# Altium schematic symbol library kmilo17pet-LT_PMIC_LT.SchLib: 2252 symbols (part 76 of 124)
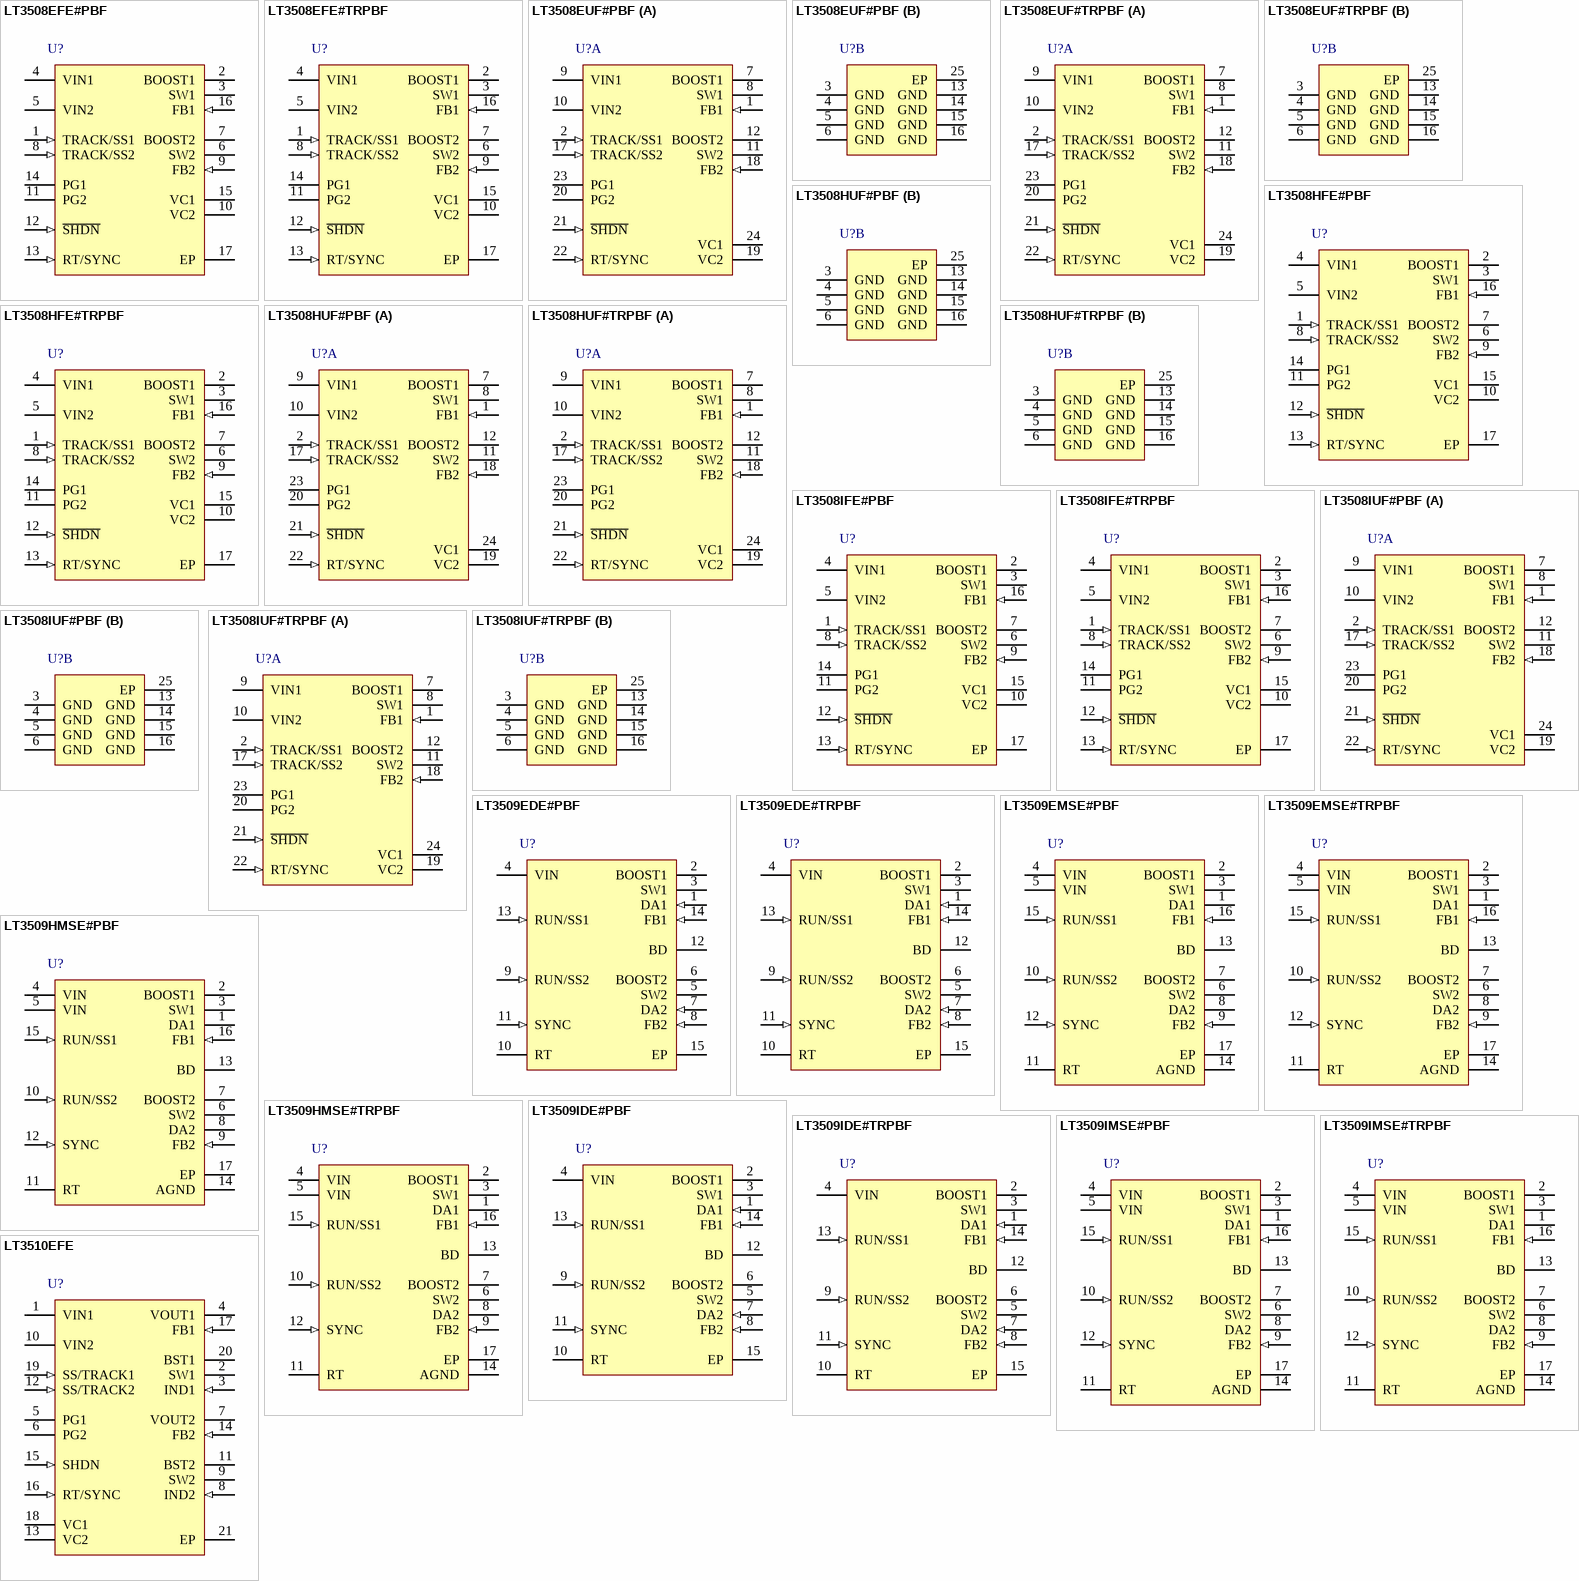
[diagram p146: symbols LT3508EFE#PBF to LT3510EFE]

## LT3508EFE#TRPBF
designator U?
Dual Monolithic 1.4 A Step-Down Switching Regulator, 16-pin SOP (FE-16-EPV-BA), -40 to 125 degC, Pb-Free, Tape and Reel; Manufacturer: Linear Technology; PartNumber: LT3508EFE#TRPBF; Number of Outputs: 2; PackageReference: FE-16; PackageDescription: 16-Pin Plastic TSSOP, Body 5 x 4.4 mm, Pitch 0.65 mm; Supplier 1: Digi-Key; Supplier Part Number 1: LT3508EFE#TRPBF-ND; RoHS: TRUE
footprint LT-FE-16-EPV-BA_N (SOP, 16-Leads, Body 5x4.4mm, Pitch 0.65mm, Thermal Pad 2.74x2.74mm, IPC Medium Density)
footprint LT-FE-16-EPV-BA_L (SOP, 16-Leads, Body 5x4.4mm, Pitch 0.65mm, Thermal Pad 2.74x2.74mm, IPC High Density)
footprint LT-FE-16-EPV-BA_M (SOP, 16-Leads, Body 5x4.4mm, Pitch 0.65mm, Thermal Pad 2.74x2.74mm, IPC Low Density)
pins: 1 TRACK/SS1 (in) "The TRACK/SS pins are used to soft-start the two channels, to allow one channel to track the other output, or to allow both channels to track another output. For tracking, tie a resistor divider to this pin from the tracked (See Datasheet)", 2 BOOST1 "The BOOST pins are used to provide drive voltages, higher than the input voltage, to the internal NPN power switches. Tie through a diode to a 2.8V or higher supply, such as VOUT or VIN.", 3 SW1 (power) "The SW pins are the outputs of the internal power switches. Connect these pins to the inductors, catch diodes and boost capacitors.", 4 VIN1 (power) "The VIN1 pin supplies current to the LT3508 internal circuitry and to the internal power switch connected to SW1 and must be locally bypassed. VIN1 must be greater than 3.7V for channel 1 or channel 2 to operate. If VIN1 is (See Datasheet)", 5 VIN2 (power) "The VIN2 pin supplies current to the internal power switch connected to SW2 and must be locally bypassed. Connect this pin directly to VIN1 unless power for channel 2 is coming from a different source. VIN2 must be greater (See Datasheet)", 6 SW2 (power) "The SW pins are the outputs of the internal power switches. Connect these pins to the inductors, catch diodes and boost capacitors.", 7 BOOST2 "The BOOST pins are used to provide drive voltages, higher than the input voltage, to the internal NPN power switches. Tie through a diode to a 2.8V or higher supply, such as VOUT or VIN.", 8 TRACK/SS2 (in) "The TRACK/SS pins are used to soft-start the two channels, to allow one channel to track the other output, or to allow both channels to track another output. For tracking, tie a resistor divider to this pin from the tracked (See Datasheet)", 9 FB2 (in) "The LT3508 regulates each feedback pin to 0.800V. Connect the feedback resistor divider taps to these pins.", 10 VC2 "The VC pins are the outputs of the internal error amps. The voltages on these pins control the peak switch currents. These pins are normally used to compensate the control loops, but can also be used to override the loops. (See Datasheet)", 11 PG2 (oc) "The power good pins are the open-collector outputs of an internal comparator. PG remains low until the FB pin is within 10% of the final regulation voltage. As well as indicating output regulation, the PG pins can be used to (See Datasheet)", 12 ~{SHDN} (in) "The shutdown pin is used to put the LT3508 in shutdown mode. Pull the pin below 0.3V to shut down the LT3508. The 2.63V threshold can function as an accurate undervoltage lockout (UVLO), preventing the regulator from (See Datasheet)", 13 RT/SYNC (in) "The RT/SYNC pin is used to set the internal oscillator frequency. Tie a 33.2k resistor from RT/SYNC to GND for a 1MHz switching frequency. To synchronize the part to an external frequency, drive the RT/SYNC pin with a (See Datasheet)", 14 PG1 (oc) "The power good pins are the open-collector outputs of an internal comparator. PG remains low until the FB pin is within 10% of the final regulation voltage. As well as indicating output regulation, the PG pins can be used to (See Datasheet)", 15 VC1 "The VC pins are the outputs of the internal error amps. The voltages on these pins control the peak switch currents. These pins are normally used to compensate the control loops, but can also be used to override the loops. (See Datasheet)", 16 FB1 (in) "The LT3508 regulates each feedback pin to 0.800V. Connect the feedback resistor divider taps to these pins.", 17 EP (power) "The exposed pad metal of the package provides both electrical contact to ground and good thermal contact to the printed circuit board. The exposed pad must be soldered to the circuit board for proper operation."

## LT3508EUF#PBF
designator U?
Dual Monolithic 1.4 A Step-Down Switching Regulator, 24-pin QFN (UF24), -40 to 125 degC, Pb-Free; Manufacturer: Linear Technology; PartNumber: LT3508EUF#PBF; Number of Outputs: 2; PackageReference: UF24; PackageDescription: 24-Pin Plastic QFN, Body 4 x 4 mm, Pitch 0.5 mm; Supplier 1: Digi-Key; Supplier Part Number 1: LT3508EUF#PBF-ND; RoHS: TRUE
footprint LT-UF-24_N (QFN, 24-Leads, Body 4.1x4.1mm, Pitch 0.5mm, Thermal Pad 2.45x2.45mm, IPC Medium Density)
footprint LT-UF-24_L (QFN, 24-Leads, Body 4.1x4.1mm, Pitch 0.5mm, Thermal Pad 2.45x2.45mm, IPC High Density)
footprint LT-UF-24_M (QFN, 24-Leads, Body 4.1x4.1mm, Pitch 0.5mm, Thermal Pad 2.45x2.45mm, IPC Low Density)
part A pins: 1 FB1 (in) "The LT3508 regulates each feedback pin to 0.800V. Connect the feedback resistor divider taps to these pins.", 2 TRACK/SS1 (in) "The TRACK/SS pins are used to soft-start the two channels, to allow one channel to track the other output, or to allow both channels to track another output. For tracking, tie a resistor divider to this pin from the tracked (See Datasheet)", 7 BOOST1 "The BOOST pins are used to provide drive voltages, higher than the input voltage, to the internal NPN power switches. Tie through a diode to a 2.8V or higher supply, such as VOUT or VIN.", 8 SW1 (power) "The SW pins are the outputs of the internal power switches. Connect these pins to the inductors, catch diodes and boost capacitors.", 9 VIN1 (power) "The VIN1 pin supplies current to the LT3508 internal circuitry and to the internal power switch connected to SW1 and must be locally bypassed. VIN1 must be greater than 3.7V for channel 1 or channel 2 to operate. If VIN1 is (See Datasheet)", 10 VIN2 (power) "The VIN2 pin supplies current to the internal power switch connected to SW2 and must be locally bypassed. Connect this pin directly to VIN1 unless power for channel 2 is coming from a different source. VIN2 must be greater (See Datasheet)", 11 SW2 (power) "The SW pins are the outputs of the internal power switches. Connect these pins to the inductors, catch diodes and boost capacitors.", 12 BOOST2 "The BOOST pins are used to provide drive voltages, higher than the input voltage, to the internal NPN power switches. Tie through a diode to a 2.8V or higher supply, such as VOUT or VIN.", 17 TRACK/SS2 (in) "The TRACK/SS pins are used to soft-start the two channels, to allow one channel to track the other output, or to allow both channels to track another output. For tracking, tie a resistor divider to this pin from the tracked (See Datasheet)", 18 FB2 (in) "The LT3508 regulates each feedback pin to 0.800V. Connect the feedback resistor divider taps to these pins.", 19 VC2 "The VC pins are the outputs of the internal error amps. The voltages on these pins control the peak switch currents. These pins are normally used to compensate the control loops, but can also be used to override the loops. (See Datasheet)", 20 PG2 (oc) "The power good pins are the open-collector outputs of an internal comparator. PG remains low until the FB pin is within 10% of the final regulation voltage. As well as indicating output regulation, the PG pins can be used to (See Datasheet)", 21 ~{SHDN} (in) "The shutdown pin is used to put the LT3508 in shutdown mode. Pull the pin below 0.3V to shut down the LT3508. The 2.63V threshold can function as an accurate undervoltage lockout (UVLO), preventing the regulator from (See Datasheet)", 22 RT/SYNC (in) "The RT/SYNC pin is used to set the internal oscillator frequency. Tie a 33.2k resistor from RT/SYNC to GND for a 1MHz switching frequency. To synchronize the part to an external frequency, drive the RT/SYNC pin with a (See Datasheet)", 23 PG1 (oc) "The power good pins are the open-collector outputs of an internal comparator. PG remains low until the FB pin is within 10% of the final regulation voltage. As well as indicating output regulation, the PG pins can be used to (See Datasheet)", 24 VC1 "The VC pins are the outputs of the internal error amps. The voltages on these pins control the peak switch currents. These pins are normally used to compensate the control loops, but can also be used to override the loops. (See Datasheet)"
part B pins: 3 GND (power) "Tie the GND pins directly to the Exposed Pad and ground plane.", 4 GND (power) "Tie the GND pins directly to the Exposed Pad and ground plane.", 5 GND (power) "Tie the GND pins directly to the Exposed Pad and ground plane.", 6 GND (power) "Tie the GND pins directly to the Exposed Pad and ground plane.", 13 GND (power) "Tie the GND pins directly to the Exposed Pad and ground plane.", 14 GND (power) "Tie the GND pins directly to the Exposed Pad and ground plane.", 15 GND (power) "Tie the GND pins directly to the Exposed Pad and ground plane.", 16 GND (power) "Tie the GND pins directly to the Exposed Pad and ground plane.", 25 EP (power) "The exposed pad metal of the package provides both electrical contact to ground and good thermal contact to the printed circuit board. The exposed pad must be soldered to the circuit board for proper operation."

## LT3508EUF#TRPBF
designator U?
Dual Monolithic 1.4 A Step-Down Switching Regulator, 24-pin QFN (UF24), -40 to 125 degC, Pb-Free, Tape and Reel; Manufacturer: Linear Technology; PartNumber: LT3508EUF#TRPBF; Number of Outputs: 2; PackageReference: UF24; PackageDescription: 24-Pin Plastic QFN, Body 4 x 4 mm, Pitch 0.5 mm; Supplier 1: Digi-Key; Supplier Part Number 1: LT3508EUF#TRPBF-ND; RoHS: TRUE
footprint LT-UF-24_N (QFN, 24-Leads, Body 4.1x4.1mm, Pitch 0.5mm, Thermal Pad 2.45x2.45mm, IPC Medium Density)
footprint LT-UF-24_L (QFN, 24-Leads, Body 4.1x4.1mm, Pitch 0.5mm, Thermal Pad 2.45x2.45mm, IPC High Density)
footprint LT-UF-24_M (QFN, 24-Leads, Body 4.1x4.1mm, Pitch 0.5mm, Thermal Pad 2.45x2.45mm, IPC Low Density)
part A pins: 1 FB1 (in) "The LT3508 regulates each feedback pin to 0.800V. Connect the feedback resistor divider taps to these pins.", 2 TRACK/SS1 (in) "The TRACK/SS pins are used to soft-start the two channels, to allow one channel to track the other output, or to allow both channels to track another output. For tracking, tie a resistor divider to this pin from the tracked (See Datasheet)", 7 BOOST1 "The BOOST pins are used to provide drive voltages, higher than the input voltage, to the internal NPN power switches. Tie through a diode to a 2.8V or higher supply, such as VOUT or VIN.", 8 SW1 (power) "The SW pins are the outputs of the internal power switches. Connect these pins to the inductors, catch diodes and boost capacitors.", 9 VIN1 (power) "The VIN1 pin supplies current to the LT3508 internal circuitry and to the internal power switch connected to SW1 and must be locally bypassed. VIN1 must be greater than 3.7V for channel 1 or channel 2 to operate. If VIN1 is (See Datasheet)", 10 VIN2 (power) "The VIN2 pin supplies current to the internal power switch connected to SW2 and must be locally bypassed. Connect this pin directly to VIN1 unless power for channel 2 is coming from a different source. VIN2 must be greater (See Datasheet)", 11 SW2 (power) "The SW pins are the outputs of the internal power switches. Connect these pins to the inductors, catch diodes and boost capacitors.", 12 BOOST2 "The BOOST pins are used to provide drive voltages, higher than the input voltage, to the internal NPN power switches. Tie through a diode to a 2.8V or higher supply, such as VOUT or VIN.", 17 TRACK/SS2 (in) "The TRACK/SS pins are used to soft-start the two channels, to allow one channel to track the other output, or to allow both channels to track another output. For tracking, tie a resistor divider to this pin from the tracked (See Datasheet)", 18 FB2 (in) "The LT3508 regulates each feedback pin to 0.800V. Connect the feedback resistor divider taps to these pins.", 19 VC2 "The VC pins are the outputs of the internal error amps. The voltages on these pins control the peak switch currents. These pins are normally used to compensate the control loops, but can also be used to override the loops. (See Datasheet)", 20 PG2 (oc) "The power good pins are the open-collector outputs of an internal comparator. PG remains low until the FB pin is within 10% of the final regulation voltage. As well as indicating output regulation, the PG pins can be used to (See Datasheet)", 21 ~{SHDN} (in) "The shutdown pin is used to put the LT3508 in shutdown mode. Pull the pin below 0.3V to shut down the LT3508. The 2.63V threshold can function as an accurate undervoltage lockout (UVLO), preventing the regulator from (See Datasheet)", 22 RT/SYNC (in) "The RT/SYNC pin is used to set the internal oscillator frequency. Tie a 33.2k resistor from RT/SYNC to GND for a 1MHz switching frequency. To synchronize the part to an external frequency, drive the RT/SYNC pin with a (See Datasheet)", 23 PG1 (oc) "The power good pins are the open-collector outputs of an internal comparator. PG remains low until the FB pin is within 10% of the final regulation voltage. As well as indicating output regulation, the PG pins can be used to (See Datasheet)", 24 VC1 "The VC pins are the outputs of the internal error amps. The voltages on these pins control the peak switch currents. These pins are normally used to compensate the control loops, but can also be used to override the loops. (See Datasheet)"
part B pins: 3 GND (power) "Tie the GND pins directly to the Exposed Pad and ground plane.", 4 GND (power) "Tie the GND pins directly to the Exposed Pad and ground plane.", 5 GND (power) "Tie the GND pins directly to the Exposed Pad and ground plane.", 6 GND (power) "Tie the GND pins directly to the Exposed Pad and ground plane.", 13 GND (power) "Tie the GND pins directly to the Exposed Pad and ground plane.", 14 GND (power) "Tie the GND pins directly to the Exposed Pad and ground plane.", 15 GND (power) "Tie the GND pins directly to the Exposed Pad and ground plane.", 16 GND (power) "Tie the GND pins directly to the Exposed Pad and ground plane.", 25 EP (power) "The exposed pad metal of the package provides both electrical contact to ground and good thermal contact to the printed circuit board. The exposed pad must be soldered to the circuit board for proper operation."

## LT3508HFE#PBF
designator U?
Dual Monolithic 1.4 A Step-Down Switching Regulator, 16-pin SOP (FE-16-EPV-BA), -40 to 150 degC, Pb-Free; Manufacturer: Linear Technology; PartNumber: LT3508HFE#PBF; Number of Outputs: 2; PackageReference: FE-16; PackageDescription: 16-Pin Plastic TSSOP, Body 5 x 4.4 mm, Pitch 0.65 mm; Supplier 1: Digi-Key; Supplier Part Number 1: LT3508HFE#PBF-ND; RoHS: TRUE
footprint LT-FE-16-EPV-BA_N (SOP, 16-Leads, Body 5x4.4mm, Pitch 0.65mm, Thermal Pad 2.74x2.74mm, IPC Medium Density)
footprint LT-FE-16-EPV-BA_L (SOP, 16-Leads, Body 5x4.4mm, Pitch 0.65mm, Thermal Pad 2.74x2.74mm, IPC High Density)
footprint LT-FE-16-EPV-BA_M (SOP, 16-Leads, Body 5x4.4mm, Pitch 0.65mm, Thermal Pad 2.74x2.74mm, IPC Low Density)
pins: 1 TRACK/SS1 (in) "The TRACK/SS pins are used to soft-start the two channels, to allow one channel to track the other output, or to allow both channels to track another output. For tracking, tie a resistor divider to this pin from the tracked (See Datasheet)", 2 BOOST1 "The BOOST pins are used to provide drive voltages, higher than the input voltage, to the internal NPN power switches. Tie through a diode to a 2.8V or higher supply, such as VOUT or VIN.", 3 SW1 (power) "The SW pins are the outputs of the internal power switches. Connect these pins to the inductors, catch diodes and boost capacitors.", 4 VIN1 (power) "The VIN1 pin supplies current to the LT3508 internal circuitry and to the internal power switch connected to SW1 and must be locally bypassed. VIN1 must be greater than 3.7V for channel 1 or channel 2 to operate. If VIN1 is (See Datasheet)", 5 VIN2 (power) "The VIN2 pin supplies current to the internal power switch connected to SW2 and must be locally bypassed. Connect this pin directly to VIN1 unless power for channel 2 is coming from a different source. VIN2 must be greater (See Datasheet)", 6 SW2 (power) "The SW pins are the outputs of the internal power switches. Connect these pins to the inductors, catch diodes and boost capacitors.", 7 BOOST2 "The BOOST pins are used to provide drive voltages, higher than the input voltage, to the internal NPN power switches. Tie through a diode to a 2.8V or higher supply, such as VOUT or VIN.", 8 TRACK/SS2 (in) "The TRACK/SS pins are used to soft-start the two channels, to allow one channel to track the other output, or to allow both channels to track another output. For tracking, tie a resistor divider to this pin from the tracked (See Datasheet)", 9 FB2 (in) "The LT3508 regulates each feedback pin to 0.800V. Connect the feedback resistor divider taps to these pins.", 10 VC2 "The VC pins are the outputs of the internal error amps. The voltages on these pins control the peak switch currents. These pins are normally used to compensate the control loops, but can also be used to override the loops. (See Datasheet)", 11 PG2 (oc) "The power good pins are the open-collector outputs of an internal comparator. PG remains low until the FB pin is within 10% of the final regulation voltage. As well as indicating output regulation, the PG pins can be used to (See Datasheet)", 12 ~{SHDN} (in) "The shutdown pin is used to put the LT3508 in shutdown mode. Pull the pin below 0.3V to shut down the LT3508. The 2.63V threshold can function as an accurate undervoltage lockout (UVLO), preventing the regulator from (See Datasheet)", 13 RT/SYNC (in) "The RT/SYNC pin is used to set the internal oscillator frequency. Tie a 33.2k resistor from RT/SYNC to GND for a 1MHz switching frequency. To synchronize the part to an external frequency, drive the RT/SYNC pin with a (See Datasheet)", 14 PG1 (oc) "The power good pins are the open-collector outputs of an internal comparator. PG remains low until the FB pin is within 10% of the final regulation voltage. As well as indicating output regulation, the PG pins can be used to (See Datasheet)", 15 VC1 "The VC pins are the outputs of the internal error amps. The voltages on these pins control the peak switch currents. These pins are normally used to compensate the control loops, but can also be used to override the loops. (See Datasheet)", 16 FB1 (in) "The LT3508 regulates each feedback pin to 0.800V. Connect the feedback resistor divider taps to these pins.", 17 EP (power) "The exposed pad metal of the package provides both electrical contact to ground and good thermal contact to the printed circuit board. The exposed pad must be soldered to the circuit board for proper operation."

## LT3508HFE#TRPBF
designator U?
Dual Monolithic 1.4 A Step-Down Switching Regulator, 16-pin SOP (FE-16-EPV-BA), -40 to 150 degC, Pb-Free, Tape and Reel; Manufacturer: Linear Technology; PartNumber: LT3508HFE#TRPBF; Number of Outputs: 2; PackageReference: FE-16; PackageDescription: 16-Pin Plastic TSSOP, Body 5 x 4.4 mm, Pitch 0.65 mm; Supplier 1: Digi-Key; Supplier Part Number 1: LT3508HFE#TRPBF-ND; RoHS: TRUE
footprint LT-FE-16-EPV-BA_N (SOP, 16-Leads, Body 5x4.4mm, Pitch 0.65mm, Thermal Pad 2.74x2.74mm, IPC Medium Density)
footprint LT-FE-16-EPV-BA_L (SOP, 16-Leads, Body 5x4.4mm, Pitch 0.65mm, Thermal Pad 2.74x2.74mm, IPC High Density)
footprint LT-FE-16-EPV-BA_M (SOP, 16-Leads, Body 5x4.4mm, Pitch 0.65mm, Thermal Pad 2.74x2.74mm, IPC Low Density)
pins: 1 TRACK/SS1 (in) "The TRACK/SS pins are used to soft-start the two channels, to allow one channel to track the other output, or to allow both channels to track another output. For tracking, tie a resistor divider to this pin from the tracked (See Datasheet)", 2 BOOST1 "The BOOST pins are used to provide drive voltages, higher than the input voltage, to the internal NPN power switches. Tie through a diode to a 2.8V or higher supply, such as VOUT or VIN.", 3 SW1 (power) "The SW pins are the outputs of the internal power switches. Connect these pins to the inductors, catch diodes and boost capacitors.", 4 VIN1 (power) "The VIN1 pin supplies current to the LT3508 internal circuitry and to the internal power switch connected to SW1 and must be locally bypassed. VIN1 must be greater than 3.7V for channel 1 or channel 2 to operate. If VIN1 is (See Datasheet)", 5 VIN2 (power) "The VIN2 pin supplies current to the internal power switch connected to SW2 and must be locally bypassed. Connect this pin directly to VIN1 unless power for channel 2 is coming from a different source. VIN2 must be greater (See Datasheet)", 6 SW2 (power) "The SW pins are the outputs of the internal power switches. Connect these pins to the inductors, catch diodes and boost capacitors.", 7 BOOST2 "The BOOST pins are used to provide drive voltages, higher than the input voltage, to the internal NPN power switches. Tie through a diode to a 2.8V or higher supply, such as VOUT or VIN.", 8 TRACK/SS2 (in) "The TRACK/SS pins are used to soft-start the two channels, to allow one channel to track the other output, or to allow both channels to track another output. For tracking, tie a resistor divider to this pin from the tracked (See Datasheet)", 9 FB2 (in) "The LT3508 regulates each feedback pin to 0.800V. Connect the feedback resistor divider taps to these pins.", 10 VC2 "The VC pins are the outputs of the internal error amps. The voltages on these pins control the peak switch currents. These pins are normally used to compensate the control loops, but can also be used to override the loops. (See Datasheet)", 11 PG2 (oc) "The power good pins are the open-collector outputs of an internal comparator. PG remains low until the FB pin is within 10% of the final regulation voltage. As well as indicating output regulation, the PG pins can be used to (See Datasheet)", 12 ~{SHDN} (in) "The shutdown pin is used to put the LT3508 in shutdown mode. Pull the pin below 0.3V to shut down the LT3508. The 2.63V threshold can function as an accurate undervoltage lockout (UVLO), preventing the regulator from (See Datasheet)", 13 RT/SYNC (in) "The RT/SYNC pin is used to set the internal oscillator frequency. Tie a 33.2k resistor from RT/SYNC to GND for a 1MHz switching frequency. To synchronize the part to an external frequency, drive the RT/SYNC pin with a (See Datasheet)", 14 PG1 (oc) "The power good pins are the open-collector outputs of an internal comparator. PG remains low until the FB pin is within 10% of the final regulation voltage. As well as indicating output regulation, the PG pins can be used to (See Datasheet)", 15 VC1 "The VC pins are the outputs of the internal error amps. The voltages on these pins control the peak switch currents. These pins are normally used to compensate the control loops, but can also be used to override the loops. (See Datasheet)", 16 FB1 (in) "The LT3508 regulates each feedback pin to 0.800V. Connect the feedback resistor divider taps to these pins.", 17 EP (power) "The exposed pad metal of the package provides both electrical contact to ground and good thermal contact to the printed circuit board. The exposed pad must be soldered to the circuit board for proper operation."

## LT3508HUF#PBF
designator U?
Dual Monolithic 1.4 A Step-Down Switching Regulator, 24-pin QFN (UF24), -40 to 150 degC, Pb-Free; Manufacturer: Linear Technology; PartNumber: LT3508HUF#PBF; Number of Outputs: 2; PackageReference: UF24; PackageDescription: 24-Pin Plastic QFN, Body 4 x 4 mm, Pitch 0.5 mm; Supplier 1: Digi-Key; Supplier Part Number 1: LT3508HUF#PBF-ND; RoHS: TRUE
footprint LT-UF-24_N (QFN, 24-Leads, Body 4.1x4.1mm, Pitch 0.5mm, Thermal Pad 2.45x2.45mm, IPC Medium Density)
footprint LT-UF-24_L (QFN, 24-Leads, Body 4.1x4.1mm, Pitch 0.5mm, Thermal Pad 2.45x2.45mm, IPC High Density)
footprint LT-UF-24_M (QFN, 24-Leads, Body 4.1x4.1mm, Pitch 0.5mm, Thermal Pad 2.45x2.45mm, IPC Low Density)
part A pins: 1 FB1 (in) "The LT3508 regulates each feedback pin to 0.800V. Connect the feedback resistor divider taps to these pins.", 2 TRACK/SS1 (in) "The TRACK/SS pins are used to soft-start the two channels, to allow one channel to track the other output, or to allow both channels to track another output. For tracking, tie a resistor divider to this pin from the tracked (See Datasheet)", 7 BOOST1 "The BOOST pins are used to provide drive voltages, higher than the input voltage, to the internal NPN power switches. Tie through a diode to a 2.8V or higher supply, such as VOUT or VIN.", 8 SW1 (power) "The SW pins are the outputs of the internal power switches. Connect these pins to the inductors, catch diodes and boost capacitors.", 9 VIN1 (power) "The VIN1 pin supplies current to the LT3508 internal circuitry and to the internal power switch connected to SW1 and must be locally bypassed. VIN1 must be greater than 3.7V for channel 1 or channel 2 to operate. If VIN1 is (See Datasheet)", 10 VIN2 (power) "The VIN2 pin supplies current to the internal power switch connected to SW2 and must be locally bypassed. Connect this pin directly to VIN1 unless power for channel 2 is coming from a different source. VIN2 must be greater (See Datasheet)", 11 SW2 (power) "The SW pins are the outputs of the internal power switches. Connect these pins to the inductors, catch diodes and boost capacitors.", 12 BOOST2 "The BOOST pins are used to provide drive voltages, higher than the input voltage, to the internal NPN power switches. Tie through a diode to a 2.8V or higher supply, such as VOUT or VIN.", 17 TRACK/SS2 (in) "The TRACK/SS pins are used to soft-start the two channels, to allow one channel to track the other output, or to allow both channels to track another output. For tracking, tie a resistor divider to this pin from the tracked (See Datasheet)", 18 FB2 (in) "The LT3508 regulates each feedback pin to 0.800V. Connect the feedback resistor divider taps to these pins.", 19 VC2 "The VC pins are the outputs of the internal error amps. The voltages on these pins control the peak switch currents. These pins are normally used to compensate the control loops, but can also be used to override the loops. (See Datasheet)", 20 PG2 (oc) "The power good pins are the open-collector outputs of an internal comparator. PG remains low until the FB pin is within 10% of the final regulation voltage. As well as indicating output regulation, the PG pins can be used to (See Datasheet)", 21 ~{SHDN} (in) "The shutdown pin is used to put the LT3508 in shutdown mode. Pull the pin below 0.3V to shut down the LT3508. The 2.63V threshold can function as an accurate undervoltage lockout (UVLO), preventing the regulator from (See Datasheet)", 22 RT/SYNC (in) "The RT/SYNC pin is used to set the internal oscillator frequency. Tie a 33.2k resistor from RT/SYNC to GND for a 1MHz switching frequency. To synchronize the part to an external frequency, drive the RT/SYNC pin with a (See Datasheet)", 23 PG1 (oc) "The power good pins are the open-collector outputs of an internal comparator. PG remains low until the FB pin is within 10% of the final regulation voltage. As well as indicating output regulation, the PG pins can be used to (See Datasheet)", 24 VC1 "The VC pins are the outputs of the internal error amps. The voltages on these pins control the peak switch currents. These pins are normally used to compensate the control loops, but can also be used to override the loops. (See Datasheet)"
part B pins: 3 GND (power) "Tie the GND pins directly to the Exposed Pad and ground plane.", 4 GND (power) "Tie the GND pins directly to the Exposed Pad and ground plane.", 5 GND (power) "Tie the GND pins directly to the Exposed Pad and ground plane.", 6 GND (power) "Tie the GND pins directly to the Exposed Pad and ground plane.", 13 GND (power) "Tie the GND pins directly to the Exposed Pad and ground plane.", 14 GND (power) "Tie the GND pins directly to the Exposed Pad and ground plane.", 15 GND (power) "Tie the GND pins directly to the Exposed Pad and ground plane.", 16 GND (power) "Tie the GND pins directly to the Exposed Pad and ground plane.", 25 EP (power) "The exposed pad metal of the package provides both electrical contact to ground and good thermal contact to the printed circuit board. The exposed pad must be soldered to the circuit board for proper operation."

## LT3508HUF#TRPBF
designator U?
Dual Monolithic 1.4 A Step-Down Switching Regulator, 24-pin QFN (UF24), -40 to 150 degC, Pb-Free, Tape and Reel; Manufacturer: Linear Technology; PartNumber: LT3508HUF#TRPBF; Number of Outputs: 2; PackageReference: UF24; PackageDescription: 24-Pin Plastic QFN, Body 4 x 4 mm, Pitch 0.5 mm; Supplier 1: Digi-Key; Supplier Part Number 1: LT3508HUF#TRPBF-ND; RoHS: TRUE
footprint LT-UF-24_N (QFN, 24-Leads, Body 4.1x4.1mm, Pitch 0.5mm, Thermal Pad 2.45x2.45mm, IPC Medium Density)
footprint LT-UF-24_L (QFN, 24-Leads, Body 4.1x4.1mm, Pitch 0.5mm, Thermal Pad 2.45x2.45mm, IPC High Density)
footprint LT-UF-24_M (QFN, 24-Leads, Body 4.1x4.1mm, Pitch 0.5mm, Thermal Pad 2.45x2.45mm, IPC Low Density)
part A pins: 1 FB1 (in) "The LT3508 regulates each feedback pin to 0.800V. Connect the feedback resistor divider taps to these pins.", 2 TRACK/SS1 (in) "The TRACK/SS pins are used to soft-start the two channels, to allow one channel to track the other output, or to allow both channels to track another output. For tracking, tie a resistor divider to this pin from the tracked (See Datasheet)", 7 BOOST1 "The BOOST pins are used to provide drive voltages, higher than the input voltage, to the internal NPN power switches. Tie through a diode to a 2.8V or higher supply, such as VOUT or VIN.", 8 SW1 (power) "The SW pins are the outputs of the internal power switches. Connect these pins to the inductors, catch diodes and boost capacitors.", 9 VIN1 (power) "The VIN1 pin supplies current to the LT3508 internal circuitry and to the internal power switch connected to SW1 and must be locally bypassed. VIN1 must be greater than 3.7V for channel 1 or channel 2 to operate. If VIN1 is (See Datasheet)", 10 VIN2 (power) "The VIN2 pin supplies current to the internal power switch connected to SW2 and must be locally bypassed. Connect this pin directly to VIN1 unless power for channel 2 is coming from a different source. VIN2 must be greater (See Datasheet)", 11 SW2 (power) "The SW pins are the outputs of the internal power switches. Connect these pins to the inductors, catch diodes and boost capacitors.", 12 BOOST2 "The BOOST pins are used to provide drive voltages, higher than the input voltage, to the internal NPN power switches. Tie through a diode to a 2.8V or higher supply, such as VOUT or VIN.", 17 TRACK/SS2 (in) "The TRACK/SS pins are used to soft-start the two channels, to allow one channel to track the other output, or to allow both channels to track another output. For tracking, tie a resistor divider to this pin from the tracked (See Datasheet)", 18 FB2 (in) "The LT3508 regulates each feedback pin to 0.800V. Connect the feedback resistor divider taps to these pins.", 19 VC2 "The VC pins are the outputs of the internal error amps. The voltages on these pins control the peak switch currents. These pins are normally used to compensate the control loops, but can also be used to override the loops. (See Datasheet)", 20 PG2 (oc) "The power good pins are the open-collector outputs of an internal comparator. PG remains low until the FB pin is within 10% of the final regulation voltage. As well as indicating output regulation, the PG pins can be used to (See Datasheet)", 21 ~{SHDN} (in) "The shutdown pin is used to put the LT3508 in shutdown mode. Pull the pin below 0.3V to shut down the LT3508. The 2.63V threshold can function as an accurate undervoltage lockout (UVLO), preventing the regulator from (See Datasheet)", 22 RT/SYNC (in) "The RT/SYNC pin is used to set the internal oscillator frequency. Tie a 33.2k resistor from RT/SYNC to GND for a 1MHz switching frequency. To synchronize the part to an external frequency, drive the RT/SYNC pin with a (See Datasheet)", 23 PG1 (oc) "The power good pins are the open-collector outputs of an internal comparator. PG remains low until the FB pin is within 10% of the final regulation voltage. As well as indicating output regulation, the PG pins can be used to (See Datasheet)", 24 VC1 "The VC pins are the outputs of the internal error amps. The voltages on these pins control the peak switch currents. These pins are normally used to compensate the control loops, but can also be used to override the loops. (See Datasheet)"
part B pins: 3 GND (power) "Tie the GND pins directly to the Exposed Pad and ground plane.", 4 GND (power) "Tie the GND pins directly to the Exposed Pad and ground plane.", 5 GND (power) "Tie the GND pins directly to the Exposed Pad and ground plane.", 6 GND (power) "Tie the GND pins directly to the Exposed Pad and ground plane.", 13 GND (power) "Tie the GND pins directly to the Exposed Pad and ground plane.", 14 GND (power) "Tie the GND pins directly to the Exposed Pad and ground plane.", 15 GND (power) "Tie the GND pins directly to the Exposed Pad and ground plane.", 16 GND (power) "Tie the GND pins directly to the Exposed Pad and ground plane.", 25 EP (power) "The exposed pad metal of the package provides both electrical contact to ground and good thermal contact to the printed circuit board. The exposed pad must be soldered to the circuit board for proper operation."

## LT3508IFE#PBF
designator U?
Dual Monolithic 1.4 A Step-Down Switching Regulator, 16-pin SOP (FE-16-EPV-BA), -40 to 125 degC, Pb-Free; Manufacturer: Linear Technology; PartNumber: LT3508IFE#PBF; Number of Outputs: 2; PackageReference: FE-16; PackageDescription: 16-Pin Plastic TSSOP, Body 5 x 4.4 mm, Pitch 0.65 mm; Supplier 1: Digi-Key; Supplier Part Number 1: LT3508IFE#PBF-ND; RoHS: TRUE
footprint LT-FE-16-EPV-BA_N (SOP, 16-Leads, Body 5x4.4mm, Pitch 0.65mm, Thermal Pad 2.74x2.74mm, IPC Medium Density)
footprint LT-FE-16-EPV-BA_L (SOP, 16-Leads, Body 5x4.4mm, Pitch 0.65mm, Thermal Pad 2.74x2.74mm, IPC High Density)
footprint LT-FE-16-EPV-BA_M (SOP, 16-Leads, Body 5x4.4mm, Pitch 0.65mm, Thermal Pad 2.74x2.74mm, IPC Low Density)
pins: 1 TRACK/SS1 (in) "The TRACK/SS pins are used to soft-start the two channels, to allow one channel to track the other output, or to allow both channels to track another output. For tracking, tie a resistor divider to this pin from the tracked (See Datasheet)", 2 BOOST1 "The BOOST pins are used to provide drive voltages, higher than the input voltage, to the internal NPN power switches. Tie through a diode to a 2.8V or higher supply, such as VOUT or VIN.", 3 SW1 (power) "The SW pins are the outputs of the internal power switches. Connect these pins to the inductors, catch diodes and boost capacitors.", 4 VIN1 (power) "The VIN1 pin supplies current to the LT3508 internal circuitry and to the internal power switch connected to SW1 and must be locally bypassed. VIN1 must be greater than 3.7V for channel 1 or channel 2 to operate. If VIN1 is (See Datasheet)", 5 VIN2 (power) "The VIN2 pin supplies current to the internal power switch connected to SW2 and must be locally bypassed. Connect this pin directly to VIN1 unless power for channel 2 is coming from a different source. VIN2 must be greater (See Datasheet)", 6 SW2 (power) "The SW pins are the outputs of the internal power switches. Connect these pins to the inductors, catch diodes and boost capacitors.", 7 BOOST2 "The BOOST pins are used to provide drive voltages, higher than the input voltage, to the internal NPN power switches. Tie through a diode to a 2.8V or higher supply, such as VOUT or VIN.", 8 TRACK/SS2 (in) "The TRACK/SS pins are used to soft-start the two channels, to allow one channel to track the other output, or to allow both channels to track another output. For tracking, tie a resistor divider to this pin from the tracked (See Datasheet)", 9 FB2 (in) "The LT3508 regulates each feedback pin to 0.800V. Connect the feedback resistor divider taps to these pins.", 10 VC2 "The VC pins are the outputs of the internal error amps. The voltages on these pins control the peak switch currents. These pins are normally used to compensate the control loops, but can also be used to override the loops. (See Datasheet)", 11 PG2 (oc) "The power good pins are the open-collector outputs of an internal comparator. PG remains low until the FB pin is within 10% of the final regulation voltage. As well as indicating output regulation, the PG pins can be used to (See Datasheet)", 12 ~{SHDN} (in) "The shutdown pin is used to put the LT3508 in shutdown mode. Pull the pin below 0.3V to shut down the LT3508. The 2.63V threshold can function as an accurate undervoltage lockout (UVLO), preventing the regulator from (See Datasheet)", 13 RT/SYNC (in) "The RT/SYNC pin is used to set the internal oscillator frequency. Tie a 33.2k resistor from RT/SYNC to GND for a 1MHz switching frequency. To synchronize the part to an external frequency, drive the RT/SYNC pin with a (See Datasheet)", 14 PG1 (oc) "The power good pins are the open-collector outputs of an internal comparator. PG remains low until the FB pin is within 10% of the final regulation voltage. As well as indicating output regulation, the PG pins can be used to (See Datasheet)", 15 VC1 "The VC pins are the outputs of the internal error amps. The voltages on these pins control the peak switch currents. These pins are normally used to compensate the control loops, but can also be used to override the loops. (See Datasheet)", 16 FB1 (in) "The LT3508 regulates each feedback pin to 0.800V. Connect the feedback resistor divider taps to these pins.", 17 EP (power) "The exposed pad metal of the package provides both electrical contact to ground and good thermal contact to the printed circuit board. The exposed pad must be soldered to the circuit board for proper operation."

## LT3508IFE#TRPBF
designator U?
Dual Monolithic 1.4 A Step-Down Switching Regulator, 16-pin SOP (FE-16-EPV-BA), -40 to 125 degC, Pb-Free, Tape and Reel; Manufacturer: Linear Technology; PartNumber: LT3508IFE#TRPBF; Number of Outputs: 2; PackageReference: FE-16; PackageDescription: 16-Pin Plastic TSSOP, Body 5 x 4.4 mm, Pitch 0.65 mm; Supplier 1: Digi-Key; Supplier Part Number 1: LT3508IFE#TRPBF-ND; RoHS: TRUE
footprint LT-FE-16-EPV-BA_N (SOP, 16-Leads, Body 5x4.4mm, Pitch 0.65mm, Thermal Pad 2.74x2.74mm, IPC Medium Density)
footprint LT-FE-16-EPV-BA_L (SOP, 16-Leads, Body 5x4.4mm, Pitch 0.65mm, Thermal Pad 2.74x2.74mm, IPC High Density)
footprint LT-FE-16-EPV-BA_M (SOP, 16-Leads, Body 5x4.4mm, Pitch 0.65mm, Thermal Pad 2.74x2.74mm, IPC Low Density)
pins: 1 TRACK/SS1 (in) "The TRACK/SS pins are used to soft-start the two channels, to allow one channel to track the other output, or to allow both channels to track another output. For tracking, tie a resistor divider to this pin from the tracked (See Datasheet)", 2 BOOST1 "The BOOST pins are used to provide drive voltages, higher than the input voltage, to the internal NPN power switches. Tie through a diode to a 2.8V or higher supply, such as VOUT or VIN.", 3 SW1 (power) "The SW pins are the outputs of the internal power switches. Connect these pins to the inductors, catch diodes and boost capacitors.", 4 VIN1 (power) "The VIN1 pin supplies current to the LT3508 internal circuitry and to the internal power switch connected to SW1 and must be locally bypassed. VIN1 must be greater than 3.7V for channel 1 or channel 2 to operate. If VIN1 is (See Datasheet)", 5 VIN2 (power) "The VIN2 pin supplies current to the internal power switch connected to SW2 and must be locally bypassed. Connect this pin directly to VIN1 unless power for channel 2 is coming from a different source. VIN2 must be greater (See Datasheet)", 6 SW2 (power) "The SW pins are the outputs of the internal power switches. Connect these pins to the inductors, catch diodes and boost capacitors.", 7 BOOST2 "The BOOST pins are used to provide drive voltages, higher than the input voltage, to the internal NPN power switches. Tie through a diode to a 2.8V or higher supply, such as VOUT or VIN.", 8 TRACK/SS2 (in) "The TRACK/SS pins are used to soft-start the two channels, to allow one channel to track the other output, or to allow both channels to track another output. For tracking, tie a resistor divider to this pin from the tracked (See Datasheet)", 9 FB2 (in) "The LT3508 regulates each feedback pin to 0.800V. Connect the feedback resistor divider taps to these pins.", 10 VC2 "The VC pins are the outputs of the internal error amps. The voltages on these pins control the peak switch currents. These pins are normally used to compensate the control loops, but can also be used to override the loops. (See Datasheet)", 11 PG2 (oc) "The power good pins are the open-collector outputs of an internal comparator. PG remains low until the FB pin is within 10% of the final regulation voltage. As well as indicating output regulation, the PG pins can be used to (See Datasheet)", 12 ~{SHDN} (in) "The shutdown pin is used to put the LT3508 in shutdown mode. Pull the pin below 0.3V to shut down the LT3508. The 2.63V threshold can function as an accurate undervoltage lockout (UVLO), preventing the regulator from (See Datasheet)", 13 RT/SYNC (in) "The RT/SYNC pin is used to set the internal oscillator frequency. Tie a 33.2k resistor from RT/SYNC to GND for a 1MHz switching frequency. To synchronize the part to an external frequency, drive the RT/SYNC pin with a (See Datasheet)", 14 PG1 (oc) "The power good pins are the open-collector outputs of an internal comparator. PG remains low until the FB pin is within 10% of the final regulation voltage. As well as indicating output regulation, the PG pins can be used to (See Datasheet)", 15 VC1 "The VC pins are the outputs of the internal error amps. The voltages on these pins control the peak switch currents. These pins are normally used to compensate the control loops, but can also be used to override the loops. (See Datasheet)", 16 FB1 (in) "The LT3508 regulates each feedback pin to 0.800V. Connect the feedback resistor divider taps to these pins.", 17 EP (power) "The exposed pad metal of the package provides both electrical contact to ground and good thermal contact to the printed circuit board. The exposed pad must be soldered to the circuit board for proper operation."

## LT3508IUF#PBF
designator U?
Dual Monolithic 1.4 A Step-Down Switching Regulator, 24-pin QFN (UF24), -40 to 125 degC, Pb-Free; Manufacturer: Linear Technology; PartNumber: LT3508IUF#PBF; Number of Outputs: 2; PackageReference: UF24; PackageDescription: 24-Pin Plastic QFN, Body 4 x 4 mm, Pitch 0.5 mm; Supplier 1: Digi-Key; Supplier Part Number 1: LT3508IUF#PBF-ND; RoHS: TRUE
footprint LT-UF-24_N (QFN, 24-Leads, Body 4.1x4.1mm, Pitch 0.5mm, Thermal Pad 2.45x2.45mm, IPC Medium Density)
footprint LT-UF-24_L (QFN, 24-Leads, Body 4.1x4.1mm, Pitch 0.5mm, Thermal Pad 2.45x2.45mm, IPC High Density)
footprint LT-UF-24_M (QFN, 24-Leads, Body 4.1x4.1mm, Pitch 0.5mm, Thermal Pad 2.45x2.45mm, IPC Low Density)
part A pins: 1 FB1 (in) "The LT3508 regulates each feedback pin to 0.800V. Connect the feedback resistor divider taps to these pins.", 2 TRACK/SS1 (in) "The TRACK/SS pins are used to soft-start the two channels, to allow one channel to track the other output, or to allow both channels to track another output. For tracking, tie a resistor divider to this pin from the tracked (See Datasheet)", 7 BOOST1 "The BOOST pins are used to provide drive voltages, higher than the input voltage, to the internal NPN power switches. Tie through a diode to a 2.8V or higher supply, such as VOUT or VIN.", 8 SW1 (power) "The SW pins are the outputs of the internal power switches. Connect these pins to the inductors, catch diodes and boost capacitors.", 9 VIN1 (power) "The VIN1 pin supplies current to the LT3508 internal circuitry and to the internal power switch connected to SW1 and must be locally bypassed. VIN1 must be greater than 3.7V for channel 1 or channel 2 to operate. If VIN1 is (See Datasheet)", 10 VIN2 (power) "The VIN2 pin supplies current to the internal power switch connected to SW2 and must be locally bypassed. Connect this pin directly to VIN1 unless power for channel 2 is coming from a different source. VIN2 must be greater (See Datasheet)", 11 SW2 (power) "The SW pins are the outputs of the internal power switches. Connect these pins to the inductors, catch diodes and boost capacitors.", 12 BOOST2 "The BOOST pins are used to provide drive voltages, higher than the input voltage, to the internal NPN power switches. Tie through a diode to a 2.8V or higher supply, such as VOUT or VIN.", 17 TRACK/SS2 (in) "The TRACK/SS pins are used to soft-start the two channels, to allow one channel to track the other output, or to allow both channels to track another output. For tracking, tie a resistor divider to this pin from the tracked (See Datasheet)", 18 FB2 (in) "The LT3508 regulates each feedback pin to 0.800V. Connect the feedback resistor divider taps to these pins.", 19 VC2 "The VC pins are the outputs of the internal error amps. The voltages on these pins control the peak switch currents. These pins are normally used to compensate the control loops, but can also be used to override the loops. (See Datasheet)", 20 PG2 (oc) "The power good pins are the open-collector outputs of an internal comparator. PG remains low until the FB pin is within 10% of the final regulation voltage. As well as indicating output regulation, the PG pins can be used to (See Datasheet)", 21 ~{SHDN} (in) "The shutdown pin is used to put the LT3508 in shutdown mode. Pull the pin below 0.3V to shut down the LT3508. The 2.63V threshold can function as an accurate undervoltage lockout (UVLO), preventing the regulator from (See Datasheet)", 22 RT/SYNC (in) "The RT/SYNC pin is used to set the internal oscillator frequency. Tie a 33.2k resistor from RT/SYNC to GND for a 1MHz switching frequency. To synchronize the part to an external frequency, drive the RT/SYNC pin with a (See Datasheet)", 23 PG1 (oc) "The power good pins are the open-collector outputs of an internal comparator. PG remains low until the FB pin is within 10% of the final regulation voltage. As well as indicating output regulation, the PG pins can be used to (See Datasheet)", 24 VC1 "The VC pins are the outputs of the internal error amps. The voltages on these pins control the peak switch currents. These pins are normally used to compensate the control loops, but can also be used to override the loops. (See Datasheet)"
part B pins: 3 GND (power) "Tie the GND pins directly to the Exposed Pad and ground plane.", 4 GND (power) "Tie the GND pins directly to the Exposed Pad and ground plane.", 5 GND (power) "Tie the GND pins directly to the Exposed Pad and ground plane.", 6 GND (power) "Tie the GND pins directly to the Exposed Pad and ground plane.", 13 GND (power) "Tie the GND pins directly to the Exposed Pad and ground plane.", 14 GND (power) "Tie the GND pins directly to the Exposed Pad and ground plane.", 15 GND (power) "Tie the GND pins directly to the Exposed Pad and ground plane.", 16 GND (power) "Tie the GND pins directly to the Exposed Pad and ground plane.", 25 EP (power) "The exposed pad metal of the package provides both electrical contact to ground and good thermal contact to the printed circuit board. The exposed pad must be soldered to the circuit board for proper operation."